# EAGLE library part RX8025 (library IC)
Real Time Clock Module -- build in 32.768kHz quartz oscillator
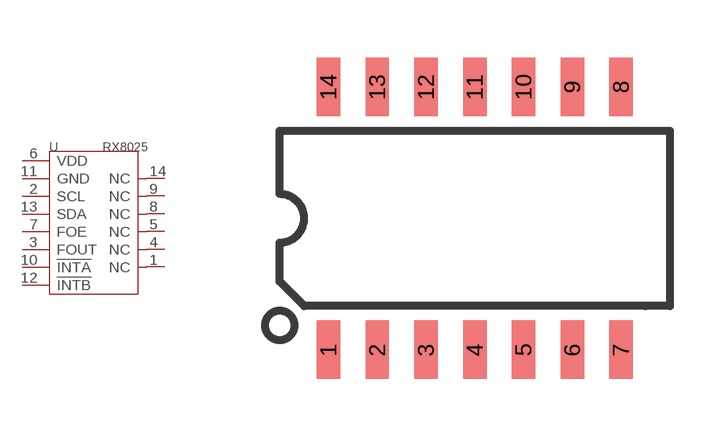
[diagram p122: symbol with the pads of SOP14; footprint SOP14]

Designator prefix U

## RX8025  [SOP14]
1  NC
2  SCL
3  FOUT
4  NC
5  NC
6  VDD
7  FOE
8  NC
9  NC
10  !INTA
11  GND
12  !INTB
13  SDA
14  NC

## Footprint SOP14 (pad centres in mm)
SMALL OUTLINE PACKAGE
smd 0.61 x 1.524: 1 -3.81,-3.429; 2 -2.54,-3.429; 3 -1.27,-3.429; 4 0,-3.429; 5 1.27,-3.429; 6 2.54,-3.429; 7 3.81,-3.429; 8 3.81,3.429; 9 2.54,3.429; 10 1.27,3.429; 11 0,3.429; 12 -1.27,3.429; 13 -2.54,3.429; 14 -3.81,3.429